# EAGLE library part RS232-PCB (library 23K_candrian)
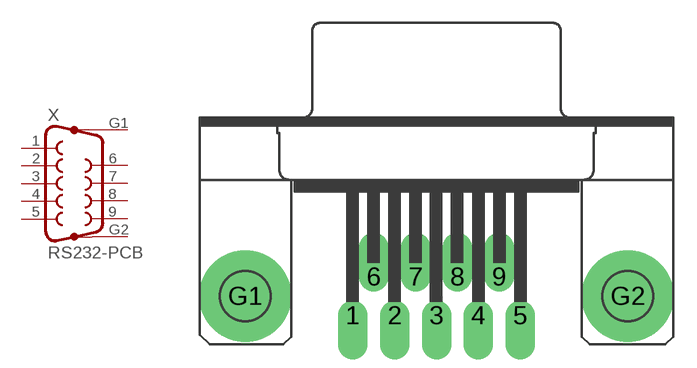
[diagram p12: symbol with the pads of F09HP; footprint F09HP]

Designator prefix X

## RS232-PCB  [F09HP]
1  1  pas
2  2  pas
3  3  pas
4  4  pas
5  5  pas
6  6  pas
7  7  pas
8  8  pas
9  9  pas
G1  G1  pas
G2  G2  pas

## Footprint F09HP (pad centres in mm)
drill 1 pad 1.93 offset: 1 -5.486,-5.08; 2 -2.743,-5.08; 3 0,-5.08; 4 2.743,-5.08; 5 5.486,-5.08; 6 -4.115,-2.54; 7 -1.372,-2.54; 8 1.372,-2.54; 9 4.115,-2.54
drill 3.302 pad 6: G1 -12.522,-3.81; G2 12.522,-3.81